# Altium schematic symbol library PCB_symbols.SchLib: 9 symbols
Pins are listed as number, name and electrical type; pins without a type are passive.

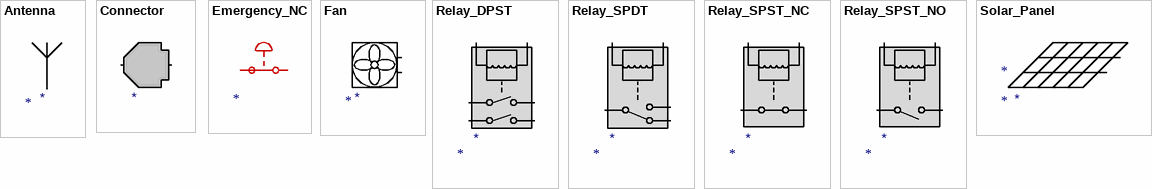
[diagram p0: symbols Antenna to Solar_Panel]

## Antenna
designator *
PN: *
pins: 10

## Connector
designator J?
PN: *
pins: 6, 6

## Emergency_NC
designator *
pins: 7, 7

## Fan
designator *
PN: *
pins: 12, 13

## Relay_DPST
designator K?
PN: *
pins: 0, 0, 0, 1, 2, 3

## Relay_SPDT
designator K?
PN: *
pins: 0, 0, 1, 2, 3

## Relay_SPST_NC
designator K?
PN: *
pins: 0, 1, 2, 3

## Relay_SPST_NO
designator K?
PN: *
pins: 0, 1, 2, 3

## Solar_Panel
designator *
PN: *
pins: 17, 18